# EAGLE library part PINHD-1X6 (library Pin Header)
PIN HEADER
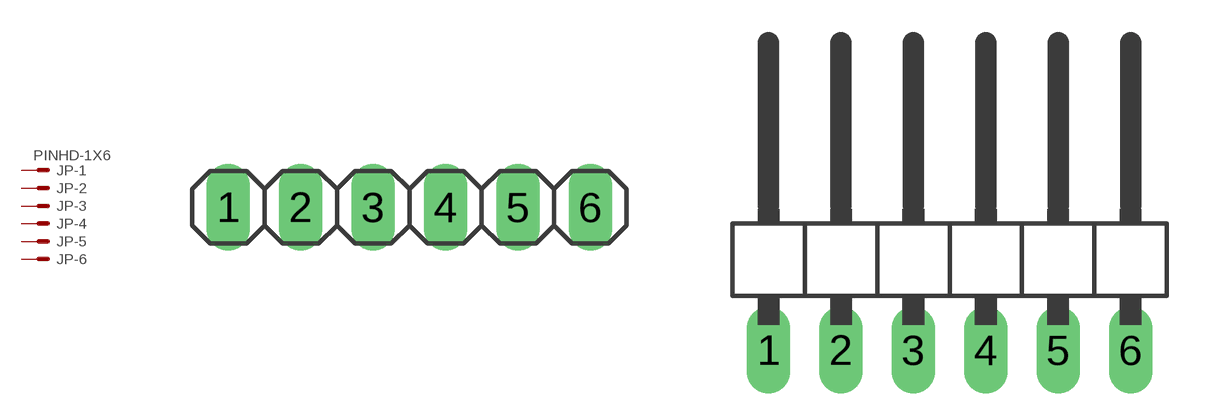
[diagram p27: symbol with the pads of 1X06; footprints 1X06, 1X06/90]

Designator prefix JP; gates -1=KV -2=K -3=K -4=K -5=K -6=K

## PINHD-1X6  [1X06]
1  -1:S  pas
2  -2:S  pas
3  -3:S  pas
4  -4:S  pas
5  -5:S  pas
6  -6:S  pas

## PINHD-1X6/90  [1X06/90]
Pads as for 1X06

## PINHD-1X6/CH  [1X06/CH]
Pads as for 1X06

## Footprint 1X06 (pad centres in mm)
PIN HEADER
drill 1.016 long: 1 -6.35,0; 2 -3.81,0; 3 -1.27,0; 4 1.27,0; 5 3.81,0; 6 6.35,0

## Footprint 1X06/90 (pad centres in mm)
PIN HEADER
drill 1.016 long: 1 -6.35,-3.81; 2 -3.81,-3.81; 3 -1.27,-3.81; 4 1.27,-3.81; 5 3.81,-3.81; 6 6.35,-3.81

## Footprint 1X06/CH (pad centres in mm)
PIN HEADER
drill 1.016 pad 1.626 offset: 1 -6.35,0; 2 -3.81,0; 3 -1.27,0; 4 1.27,0; 5 3.81,-0.025; 6 6.35,0
hole 1.016 at -6.35,1.6
hole 1.016 at -3.81,1.6
hole 1.016 at -1.27,1.6
hole 1.016 at 1.27,1.6
hole 1.016 at 3.81,1.6
hole 1.016 at 6.35,1.6